# Altium schematic symbol library LTA1VS16C.Schlib: 1 symbol
Pins are listed as number, name and electrical type; pins without a type are passive.

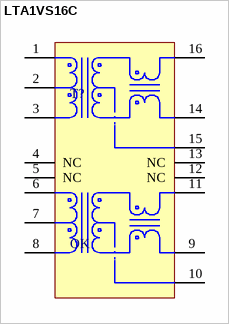
[diagram p0: symbol LTA1VS16C]

## LTA1VS16C
designator T?, comment OK
Audio Transformers / Signal Transformers LANTA 350uH 16 pin 5.3mmH
pins: 1 TD+, 2 TCT, 3 TD-, 4 NC, 5 NC, 6 RD+, 7 RCT, 8 RD-, 9 RX-, 10 CMT, 11 RX+, 12 NC, 13 NC, 14 TX-, 15 CMT, 16 TX+